# EAGLE library part LT8640 (library dubec)
IC REG BUCK ADJ 5A
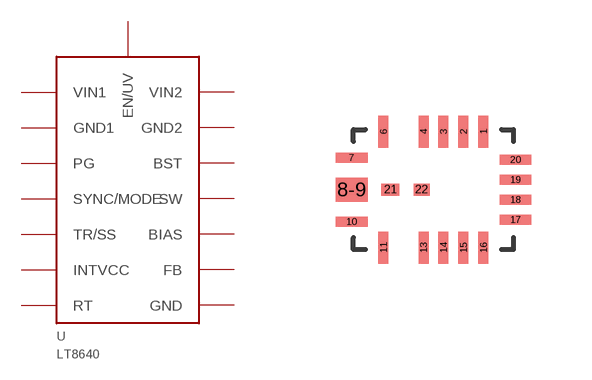
[diagram p16: symbol with the pads of QFN-18; footprint QFN-18]

Designator prefix -

## LT8640IUDC-1 (DIGIKEY_PART_#: LT8640IUDC-1#PBF-ND; EURO: 149.52/25; MANUFACTURER: Linear Technology; MFG_PART_#: LT8640IUDC-1#PBF)  [QFN-18]
1  BIAS  pas
2  INTVCC  pas
3  BST  pas
4  VIN1  pas
6  GND1  pas
7  GND1  pas
8-9  SW  pas
10  GND2  pas
11  GND2  pas
13  VIN2  pas
14  EN/UV  pas
15  RT  pas
16  TR/SS  pas
17  SYNC/MODE  pas
18  GND  pas
19  PG  pas
20  FB  pas
21  SW  pas
22  SW  pas

## LT8640HUDC (DIGIKEY_PART_#: LT8640HUDC#PBF-ND; EURO: 9.70; MANUFACTURER: Linear Technology; MFG_PART_#: LT8640HUDC#PBF)  [QFN-18]
Pads as for QFN-18

## Footprint QFN-18 (pad centres in mm)
smd 0.25 x 0.8: 1 1.25,1.45; 2 0.75,1.45; 3 0.25,1.45; 4 -0.25,1.45; 6 -1.25,1.45; 11 -1.25,-1.45; 13 -0.25,-1.45; 14 0.25,-1.45; 15 0.75,-1.45; 16 1.25,-1.45
smd 0.8 x 0.25: 7 -2.05,0.8; 10 -2.05,-0.8; 17 2.05,-0.75; 18 2.05,-0.25; 19 2.05,0.25; 20 2.05,0.75
smd 0.8 x 0.6: 8-9 -2.05,0
smd 0.45 x 0.3: 21 -1.075,0
smd 0.4 x 0.3: 22 -0.3,0